# Altium footprint library 691 219 610 0xx.PcbLib: 2 footprints
Each footprint in its own frame and in the unit in brackets; x right, y up, seen from the top. Pads: shape width x height; smd on the part's side, far side on the other; paste and mask are expansions set on the pad; w line width, h text height; cw(c..) or ccw(c..) is an arc to the next point about the centre after c.
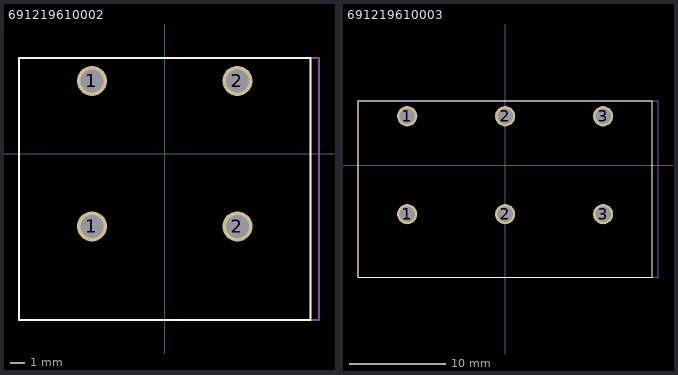
[diagram p0: the footprints below, top view; thin cyan lines are the x and y axes]

## 691219610002 [mm]
height 28.5
pads (4):
  round 2.1 hole 1.6: 1(-5.08,-5.08) 1(-5.08,5.08) 2(5.08,-5.08) 2(5.08,5.08)
Top Overlay:
  lines w0.127: -10.18,-11.62 10.18,-11.62 10.18,6.68 -10.18,6.68 -10.18,-11.62
Mechanical 13:
  lines w0.127: -10.18,-11.62 10.78,-11.62 10.78,6.68 -10.18,6.68 -10.18,-11.62
3D body: height 28.51, standoff -4.59, extent -10.18,-11.62 10.74,6.68

## 691219610003 [mm]
height 28.5
pads (6):
  round 2.1 hole 1.6: 1(-10.16,-5.08) 1(-10.16,5.08) 2(0,-5.08) 2(0,5.08) 3(10.16,-5.08) 3(10.16,5.08)
Top Overlay:
  lines w0.127: -15.26,-11.62 15.26,-11.62 15.26,6.68 -15.26,6.68 -15.26,-11.62
Mechanical 13:
  lines w0.127: -15.26,-11.62 -15.26,6.68 15.86,6.68 15.86,-11.62 -15.26,-11.62
3D body: height 28.51, standoff -4.59, extent -15.26,-11.62 15.82,6.68